# Altium schematic symbol library LINUX SOC Module.SchLib: 1 symbol
Pins are listed as number, name and electrical type; pins without a type are passive.

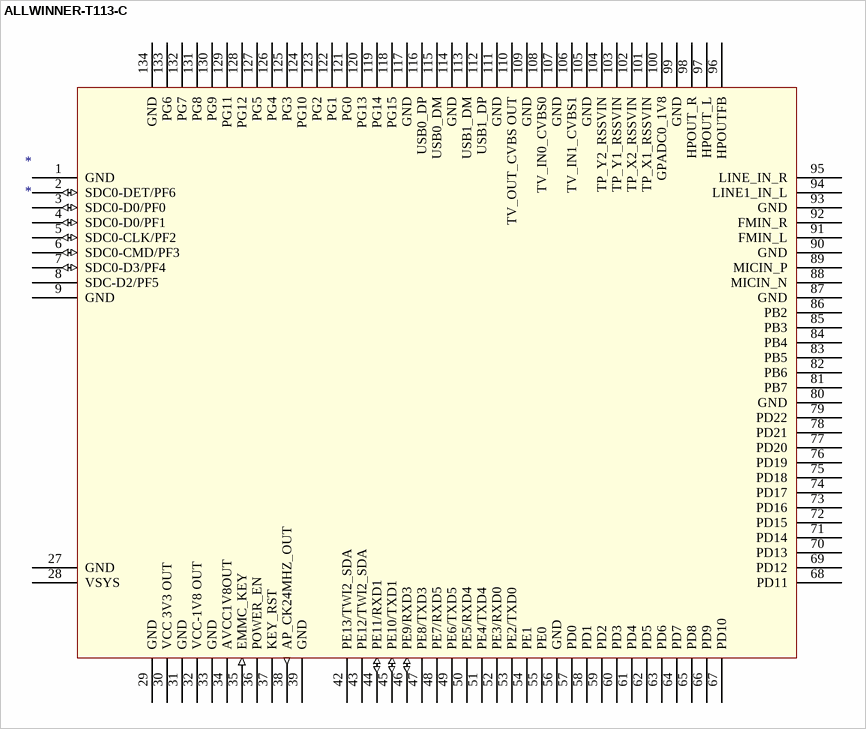
[diagram p0: symbol ALLWINNER-T113-C]

## ALLWINNER-T113-C
designator *
footprint RP-T113-C (RP-T113-C SOC Module)
pins: 1 GND (power), 2 SDC0-DET/PF6 (io), 3 SDC0-D0/PF0 (io), 4 SDC0-D0/PF1 (io), 5 SDC0-CLK/PF2 (io), 6 SDC0-CMD/PF3 (io), 7 SDC0-D3/PF4 (io), 8 SDC-D2/PF5, 9 GND, 27 GND (power), 28 VSYS (power) "Main power 3V4 - 5V5", 29 GND (power), 30 VCC 3V3 OUT "Output 500mA", 31 GND (power), 32 VCC-1V8 OUT "1V8 Output; 80mA", 33 GND (power), 34 AVCC1V8OUT, 35 EMMC_KEY (in) "1V8-3V3 Input", 36 POWER_EN, 37 KEY_RST "3V3 Input; reset button", 38 AP_CK24MHZ_OUT (out) "CLOCK; 1V8", 39 GND (power), 42 PE13/TWI2_SDA, 43 PE12/TWI2_SDA, 44 PE11/RXD1 (io), 45 PE10/TXD1 (io), 46 PE9/RXD3 (io), 47 PE8/TXD3, 48 PE7/RXD5, 49 PE6/TXD5, 50 PE5/RXD4, 51 PE4/TXD4, 52 PE3/RXD0, 53 PE2/TXD0, 54 PE1, 55 PE0, 56 GND, 57 PD0, 58 PD1, 59 PD2, 60 PD3, 61 PD4, 62 PD5, 63 PD6, 64 PD7, 65 PD8, 66 PD9, 67 PD10, 68 PD11, 69 PD12, 70 PD13, 71 PD14, 72 PD15, 73 PD16, 74 PD17, 75 PD18, 76 PD19, 77 PD20, 78 PD21, 79 PD22, 80 GND, 81 PB7, 82 PB6, 83 PB5, 84 PB4, 85 PB3, 86 PB2, 87 GND, 88 MICIN_N, 89 MICIN_P, 90 GND, 91 FMIN_L, 92 FMIN_R, 93 GND, 94 LINE1_IN_L, 95 LINE_IN_R, 96 HPOUTFB "Headphones", 97 HPOUT_L, 98 HPOUT_R, 99 GND, 100 GPADC0_1V8, 101 TP_X1_RSSVIN, 102 TP_X2_RSSVIN, 103 TP_Y1_RSSVIN, 104 TP_Y2_RSSVIN, 105 GND, 106 TV_IN1_CVBS1, 107 GND, 108 TV_IN0_CVBS0, 109 GND, 110 TV_OUT_CVBS OUT, 111 GND, 112 USB1_DP, 113 USB1_DM, 114 GND, 115 USB0_DM, 116 USB0_DP, 117 GND, 118 PG15, 119 PG14, 120 PG13, 121 PG0, 122 PG1, 123 PG2, 124 PG10, 125 PG3, 126 PG4, 127 PG5, 128 PG12, 129 PG11, 130 PG9, 131 PG8, 132 PG7, 133 PG6, 134 GND